# EAGLE library part AD9851 (library ad9851)
DDS
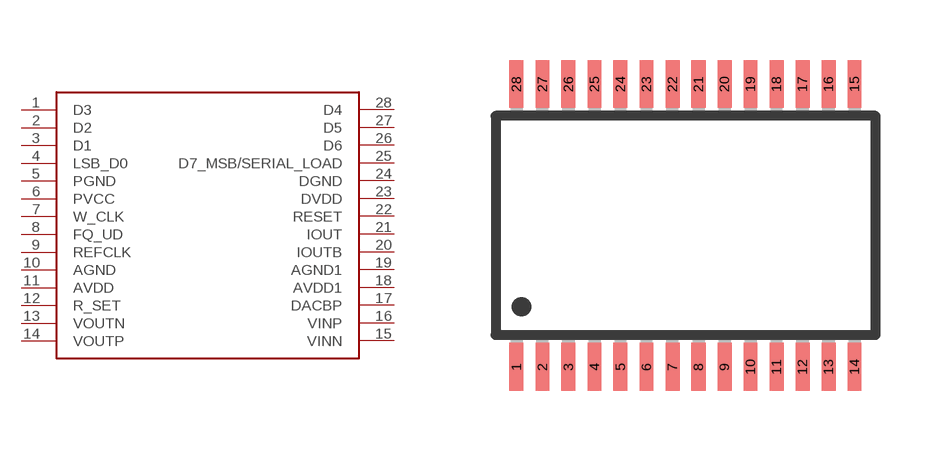
[diagram p0: symbol with the pads of TSSOP28; footprint TSSOP28]

Designator prefix -

## AD9851BR  [TSSOP28]
1  D3
2  D2
3  D1
4  LSB_D0
5  PGND
6  PVCC
7  W_CLK
8  FQ_UD
9  REFCLK
10  AGND
11  AVDD
12  R_SET
13  VOUTN
14  VOUTP
15  VINN
16  VINP
17  DACBP
18  AVDD1
19  AGND1
20  IOUTB
21  IOUT
22  RESET
23  DVDD
24  DGND
25  D7_MSB/SERIAL_LOAD
26  D6
27  D5
28  D4

## Footprint TSSOP28 (pad centres in mm)
smd 0.35 x 1.2: 1 -5.495,-2.9; 2 -4.845,-2.9; 3 -4.195,-2.9; 4 -3.545,-2.9; 5 -2.895,-2.9; 6 -2.245,-2.9; 7 -1.595,-2.9; 8 -0.945,-2.9; 9 -0.295,-2.9; 10 0.355,-2.9; 11 1.005,-2.9; 12 1.655,-2.9; 13 2.305,-2.9; 14 2.955,-2.9; 15 2.955,4.17; 16 2.305,4.17; 17 1.655,4.17; 18 1.005,4.17; 19 0.355,4.17; 20 -0.295,4.17; 21 -0.945,4.17; 22 -1.595,4.17; 23 -2.245,4.17; 24 -2.895,4.17; 25 -3.545,4.17; 26 -4.195,4.17; 27 -4.845,4.17; 28 -5.495,4.17